# Altium footprint library ESSOP-10.PcbLib: 1 footprints
Each footprint in its own frame and in the unit in brackets; x right, y up, seen from the top. Pads: shape width x height; smd on the part's side, far side on the other; paste and mask are expansions set on the pad; w line width, h text height; cw(c..) or ccw(c..) is an arc to the next point about the centre after c.
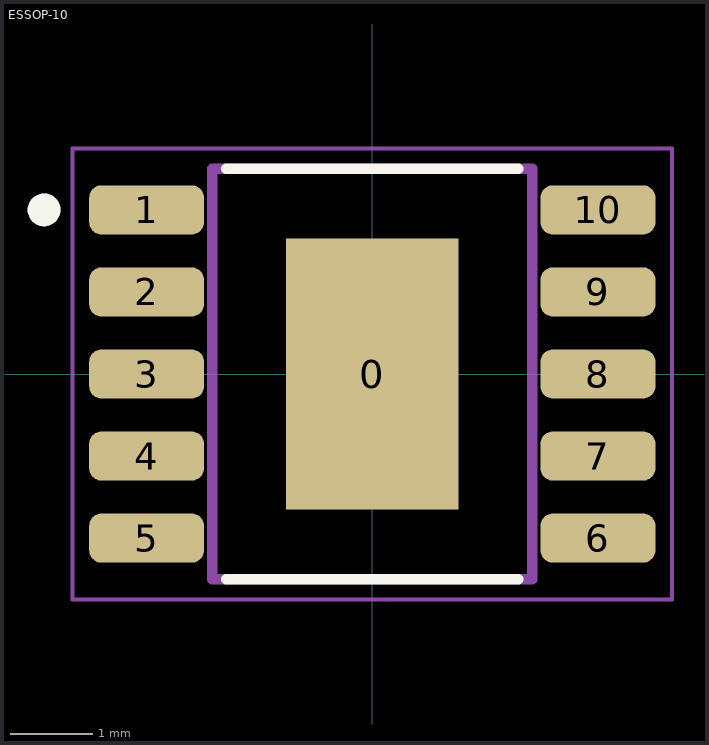
[diagram p0: the footprint, top view; thin cyan lines are the x and y axes]

## ESSOP-10 [mm]
height 1.6
pads (11):
  rect 2.1x3.3 smd paste-3: 0(0,0)
  rrect50% 1.4x0.6 smd: 1(-2.75,2) 2(-2.75,1) 3(-2.75,0) 4(-2.75,-1) 5(-2.75,-2) 6(2.75,-2) 7(2.75,-1) 8(2.75,0) 9(2.75,1) 10(2.75,2)
Top Overlay:
  circle w0.2: c-4,2 r0.1
  lines w0.127: -1.78,-2.5 1.78,-2.5 ; -1.78,2.5 1.78,2.5
Top Paste:
  region: 0.664,-1.044 -0.664,-1.044 -0.664,1.044 0.664,1.044
Mechanical 13:
  circle w0.2: c-4,2 r0.1
  lines w0.127: -1.95,-2.5 -1.95,2.5 1.95,2.5 1.95,-2.5 -1.95,-2.5
Mechanical 15:
  lines w0.05: -3.655,-2.75 -3.655,2.75 3.655,2.75 3.655,-2.75 -3.655,-2.75
3D body "SSOP10.step": height 1.32, standoff 0, extent -3.006,-2.4 2.8,2.4